# Altium integrated library ESP32-C3-DEVKITM-1.IntLib: 1 symbol
Pins are listed as number, name and electrical type; pins without a type are passive.

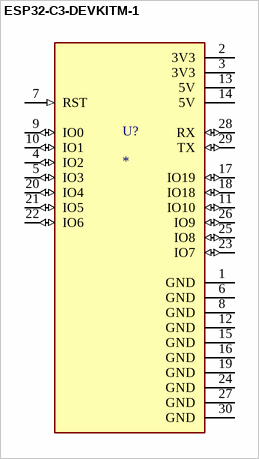
[diagram p0: symbol ESP32-C3-DEVKITM-1]

## ESP32-C3-DEVKITM-1
designator U?
WiFi Development Tools (802.11) (ENGINEERING SAMPLE ONLY) ESP32-C3 General-Purpose Dev Board, Embeds ESP32-C3-MINI-1, 4 MB Flash, w/ Pin Header; MP: ESP32-C3-DEVKITM-1; MF: Espressif Systems; Availability: In Stock; Check_prices: https://www.snapeda.com/parts/ESP32-C3-DEVKITM-1/Espressif+Systems/view-part/?ref=eda; SnapEDA_Link: https://www.snapeda.com/parts/ESP32-C3-DEVKITM-1/Espressif+Systems/view-part/?ref=snap; Price: None; Value: *; Purchase-URL: https://pricing.snapeda.com/search/part/ESP32-C3-DEVKITM-1/?ref=eda; Package: None
footprint XCVR_ESP32-C3-DEVKITM-1
pins: 1 GND (power), 2 3V3 (power), 3 3V3 (power), 4 IO2 (io), 5 IO3 (io), 6 GND (power), 7 RST (in), 8 GND (power), 9 IO0 (io), 10 IO1 (io), 11 IO10 (io), 12 GND (power), 13 5V (power), 14 5V (power), 15 GND (power), 16 GND (power), 17 IO19 (io), 18 IO18 (io), 19 GND (power), 20 IO4 (io), 21 IO5 (io), 22 IO6 (io), 23 IO7 (io), 24 GND (power), 25 IO8 (io), 26 IO9 (io), 27 GND (power), 28 RX (io), 29 TX (io), 30 GND (power)